# EAGLE library part UNC20 (library inventronik)
UNC20 Module (Forth Systems) Inventronik GmbH, 2004 www.inventronik.de
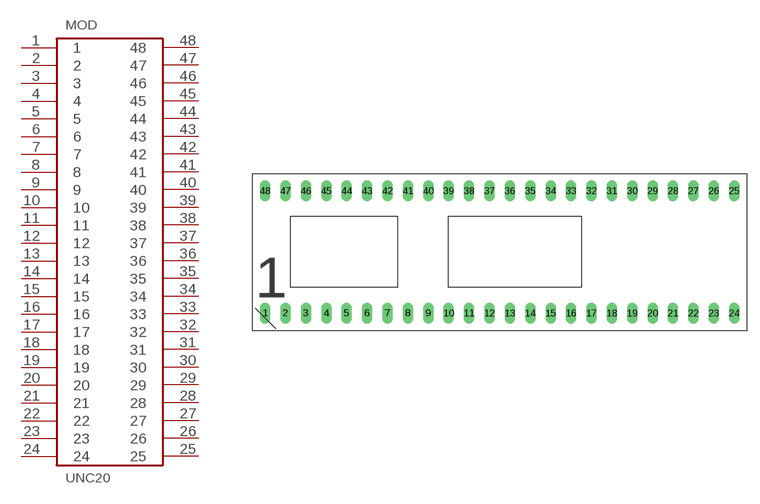
[diagram p3: symbol with the pads of UNC20; footprint UNC20]

Designator prefix MOD

## UNC20  [UNC20]
1  1
2  2
3  3
4  4
5  5
6  6
7  7
8  8
9  9
10  10
11  11
12  12
13  13
14  14
15  15
16  16
17  17
18  18
19  19
20  20
21  21
22  22
23  23
24  24
25  25
26  26
27  27
28  28
29  29
30  30
31  31
32  32
33  33
34  34
35  35
36  36
37  37
38  38
39  39
40  40
41  41
42  42
43  43
44  44
45  45
46  46
47  47
48  48

## Footprint UNC20 (pad centres in mm)
UNC20 Module (Forth Systems) Inventronik GmbH, 2004 www.inventronik.de
drill 0.813 long: 1 -33.02,-7.62; 2 -30.48,-7.62; 3 -27.94,-7.62; 4 -25.4,-7.62; 5 -22.86,-7.62; 6 -20.32,-7.62; 7 -17.78,-7.62; 8 -15.24,-7.62; 9 -12.7,-7.62; 10 -10.16,-7.62; 11 -7.62,-7.62; 12 -5.08,-7.62; 13 -2.54,-7.62; 14 0,-7.62; 15 2.54,-7.62; 16 5.08,-7.62; 17 7.62,-7.62; 18 10.16,-7.62; 19 12.7,-7.62; 20 15.24,-7.62; 21 17.78,-7.62; 22 20.32,-7.62; 23 22.86,-7.62; 24 25.4,-7.62; 25 25.4,7.62; 26 22.86,7.62; 27 20.32,7.62; 28 17.78,7.62; 29 15.24,7.62; 30 12.7,7.62; 31 10.16,7.62; 32 7.62,7.62; 33 5.08,7.62; 34 2.54,7.62; 35 0,7.62; 36 -2.54,7.62; 37 -5.08,7.62; 38 -7.62,7.62; 39 -10.16,7.62; 40 -12.7,7.62; 41 -15.24,7.62; 42 -17.78,7.62; 43 -20.32,7.62; 44 -22.86,7.62; 45 -25.4,7.62; 46 -27.94,7.62; 47 -30.48,7.62; 48 -33.02,7.62